# EAGLE library part TINYLOGIC_PIC32MX250F128B (library logic_pirate)
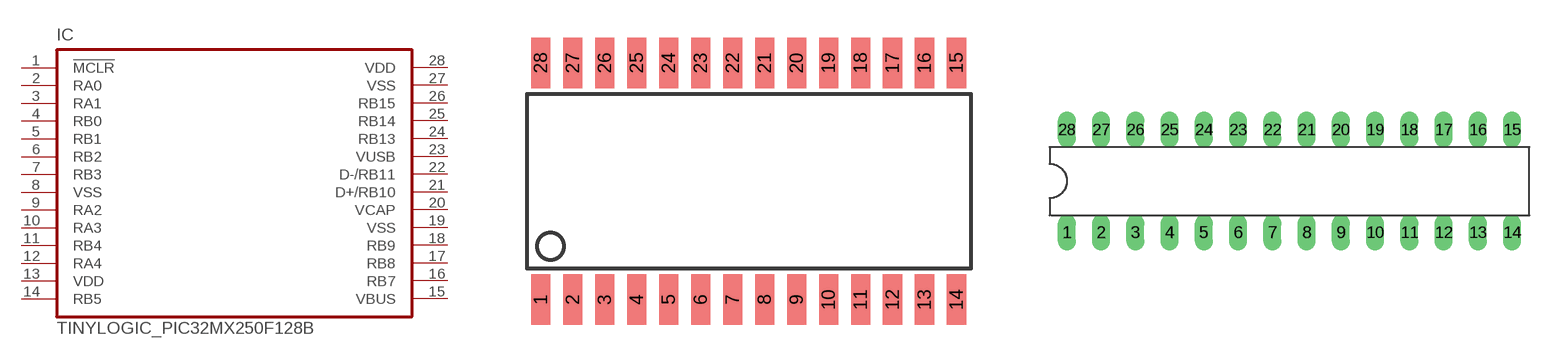
[diagram p4: symbol with the pads of TINYLOGIC_DP_DEVICES_SOIC-28W; footprints TINYLOGIC_DP_DEVICES_SOIC-28W, TINYLOGIC_DP_DEVICES_DIL28-3]

Designator prefix IC

## TINYLOGIC_PIC32MX250F128BSO  [TINYLOGIC_DP_DEVICES_SOIC-28W]
1  !MCLR
2  RA0
3  RA1
4  RB0
5  RB1
6  RB2
7  RB3
8  VSS  pwr
9  RA2
10  RA3
11  RB4
12  RA4
13  VDD  pwr
14  RB5
15  VBUS  pwr
16  RB7
17  RB8
18  RB9
19  VSS  pas
20  VCAP  pwr
21  D+/RB10
22  D-/RB11
23  VUSB
24  RB13
25  RB14
26  RB15
27  VSS  pwr
28  VDD  pwr

## TINYLOGIC_PIC32MX250F128BSP  [TINYLOGIC_DP_DEVICES_DIL28-3]
Pads as for TINYLOGIC_DP_DEVICES_SOIC-28W

## Footprint TINYLOGIC_DP_DEVICES_SOIC-28W (pad centres in mm)
smd 0.762 x 2: 1 -8.89,-4.7; 2 -7.62,-4.7; 3 -6.35,-4.7; 4 -5.08,-4.7; 5 -3.81,-4.7; 6 -2.54,-4.7; 7 -1.27,-4.7; 8 0,-4.7; 9 1.27,-4.7; 10 2.54,-4.7; 11 3.81,-4.7; 12 5.08,-4.7; 13 6.35,-4.7; 14 7.62,-4.7; 15 7.62,4.7; 16 6.35,4.7; 17 5.08,4.7; 18 3.81,4.7; 19 2.54,4.7; 20 1.27,4.7; 21 0,4.7; 22 -1.27,4.7; 23 -2.54,4.7; 24 -3.81,4.7; 25 -5.08,4.7; 26 -6.35,4.7; 27 -7.62,4.7; 28 -8.89,4.7

## Footprint TINYLOGIC_DP_DEVICES_DIL28-3 (pad centres in mm)
Dual In Line package type P
drill 0.813 long: 1 -16.51,-3.81; 2 -13.97,-3.81; 3 -11.43,-3.81; 4 -8.89,-3.81; 5 -6.35,-3.81; 6 -3.81,-3.81; 7 -1.27,-3.81; 8 1.27,-3.81; 9 3.81,-3.81; 10 6.35,-3.81; 11 8.89,-3.81; 12 11.43,-3.81; 13 13.97,-3.81; 14 16.51,-3.81; 15 16.51,3.81; 16 13.97,3.81; 17 11.43,3.81; 18 8.89,3.81; 19 6.35,3.81; 20 3.81,3.81; 21 1.27,3.81; 22 -1.27,3.81; 23 -3.81,3.81; 24 -6.35,3.81; 25 -8.89,3.81; 26 -11.43,3.81; 27 -13.97,3.81; 28 -16.51,3.81